# Altium schematic symbol library SCH - CHARGER - Microchip MCP73213x.SchLib: 1 symbol
Pins are listed as number, name and electrical type; pins without a type are passive.

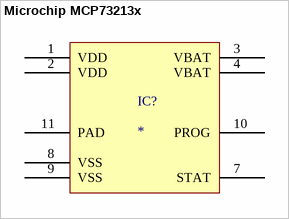
[diagram p0: symbol Microchip MCP73213x]

## Microchip MCP73213x
designator IC?
pins: 1 VDD, 2 VDD, 3 VBAT, 4 VBAT, 7 STAT, 8 VSS, 9 VSS, 10 PROG, 11 PAD